# EAGLE library part 504754-5100 (library QUAD_Connectors_Symbols)
Molex 51pin 0.3mm pitch connector Source: Datasheet <https://www.molex.com/pdm_docs/sd/5047545100_sd.pdf>
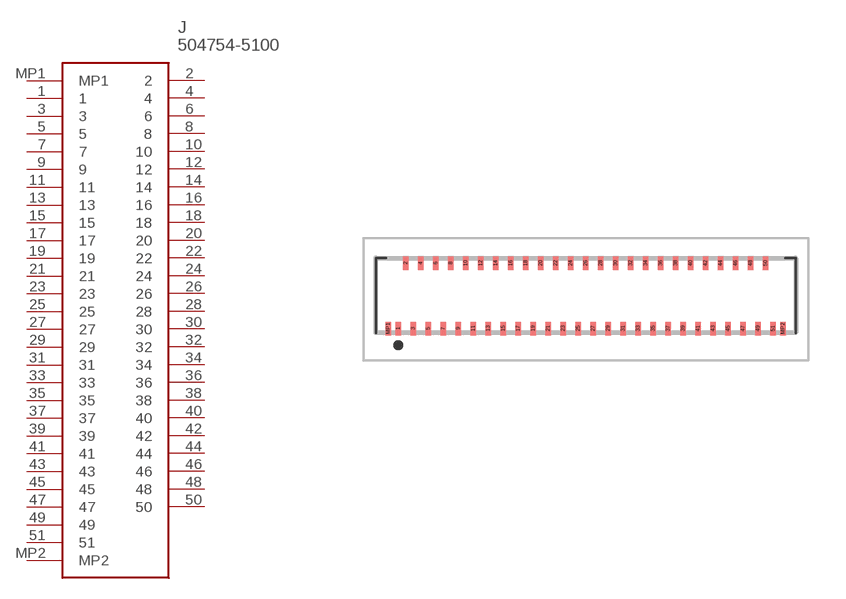
[diagram p1: symbol with the pads of 5047545100; footprint 5047545100]

Designator prefix J

## 504754-5100 (DESCRIPTION: 0.3FPC B/F HSGASSY W/LCK 51CKTEMBSTPPKG; HEIGHT: 1.47mm; MANUFACTURER_NAME: Molex; MANUFACTURER_PART_NUMBER: 504754-5100; MOUSER_PART_NUMBER: 538-504754-5100; MOUSER_PRICE-STOCK: https://www.mouser.com/Search/Refine.aspx?Keyword=538-504754-5100)  [5047545100]
1  1
2  2
3  3
4  4
5  5
6  6
7  7
8  8
9  9
10  10
11  11
12  12
13  13
14  14
15  15
16  16
17  17
18  18
19  19
20  20
21  21
22  22
23  23
24  24
25  25
26  26
27  27
28  28
29  29
30  30
31  31
32  32
33  33
34  34
35  35
36  36
37  37
38  38
39  39
40  40
41  41
42  42
43  43
44  44
45  45
46  46
47  47
48  48
49  49
50  50
51  51
MP1  MP1
MP2  MP2

## Footprint 5047545100 (pad centres in mm)
504754-5100-2
smd 0.22 x 0.54: 1 -7.5,-1.18; 3 -6.9,-1.18; 5 -6.3,-1.18; 7 -5.7,-1.18; 9 -5.1,-1.18; 11 -4.5,-1.18; 13 -3.9,-1.18; 15 -3.3,-1.18; 17 -2.7,-1.18; 19 -2.1,-1.18; 21 -1.5,-1.18; 23 -0.9,-1.18; 25 -0.3,-1.18; 27 0.3,-1.18; 29 0.9,-1.18; 31 1.5,-1.18; 33 2.1,-1.18; 35 2.7,-1.18; 37 3.3,-1.18; 39 3.9,-1.18; 41 4.5,-1.18; 43 5.1,-1.18; 45 5.7,-1.18; 47 6.3,-1.18; 49 6.9,-1.18; 51 7.5,-1.18; MP1 -7.9,-1.18; MP2 7.9,-1.18
smd 0.22 x 0.53: 2 -7.2,1.435; 4 -6.6,1.435; 6 -6,1.435; 8 -5.4,1.435; 10 -4.8,1.435; 12 -4.2,1.435; 14 -3.6,1.435; 16 -3,1.435; 18 -2.4,1.435; 20 -1.8,1.435; 22 -1.2,1.435; 24 -0.6,1.435; 26 0,1.435; 28 0.6,1.435; 30 1.2,1.435; 32 1.8,1.435; 34 2.4,1.435; 36 3,1.435; 38 3.6,1.435; 40 4.2,1.435; 42 4.8,1.435; 44 5.4,1.435; 46 6,1.435; 48 6.6,1.435; 50 7.2,1.435